# Altium schematic symbol library Therm.Schlib: 1 symbol
Pins are listed as number, name and electrical type; pins without a type are passive.

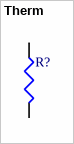
[diagram p0: symbol Therm]

## Therm
designator R?
Resistor
signal-integrity model Res
pins: 1, 2
2 alternate drawings of the same symbol